# Altium schematic symbol library GENERIC_HEADER_2X2.SchLib: 1 symbol
Pins are listed as number, name and electrical type; pins without a type are passive.

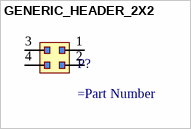
[diagram p0: symbol GENERIC_HEADER_2X2]

## GENERIC_HEADER_2X2
designator P?
=Description
pins: 1, 2, 3, 4